# Altium integrated library fans.IntLib: 2 symbols
Pins are listed as number, name and electrical type; pins without a type are passive.

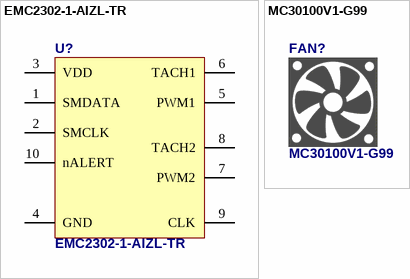
[diagram p0: symbols EMC2302-1-AIZL-TR to MC30100V1-G99]

## EMC2302-1-AIZL-TR
designator U?
Dual RPM-Based PWM Fan Controller; Supplier 1: Mouser; Supplier 2: Farnell; Supplier Part Number 1: 886-EMC2302-1-AIZLTR; Supplier Part Number 2: 2361970
footprint MSOP10
pins: 1 SMDATA, 2 SMCLK, 3 VDD, 4 GND, 5 PWM1, 6 TACH1, 7 PWM2, 8 TACH2, 9 CLK, 10 nALERT

## MC30100V1-G99
designator FAN?
5V 30x30x10 mm MagLev Motor Fan
footprint xx3010Vx-xxx-inlet (Sunon 30x30x10 mm DC Fan)
footprint xx3010Vx-xxx-outlet (Sunon 30x30x10 mm DC Fan)